# Altium footprint library Orient2.PcbLib: 47 footprints (part 1 of 3)
Each footprint in its own frame and in the unit in brackets; x right, y up, seen from the top. Pads: shape width x height; smd on the part's side, far side on the other; paste and mask are expansions set on the pad; w line width, h text height; cw(c..) or ccw(c..) is an arc to the next point about the centre after c.
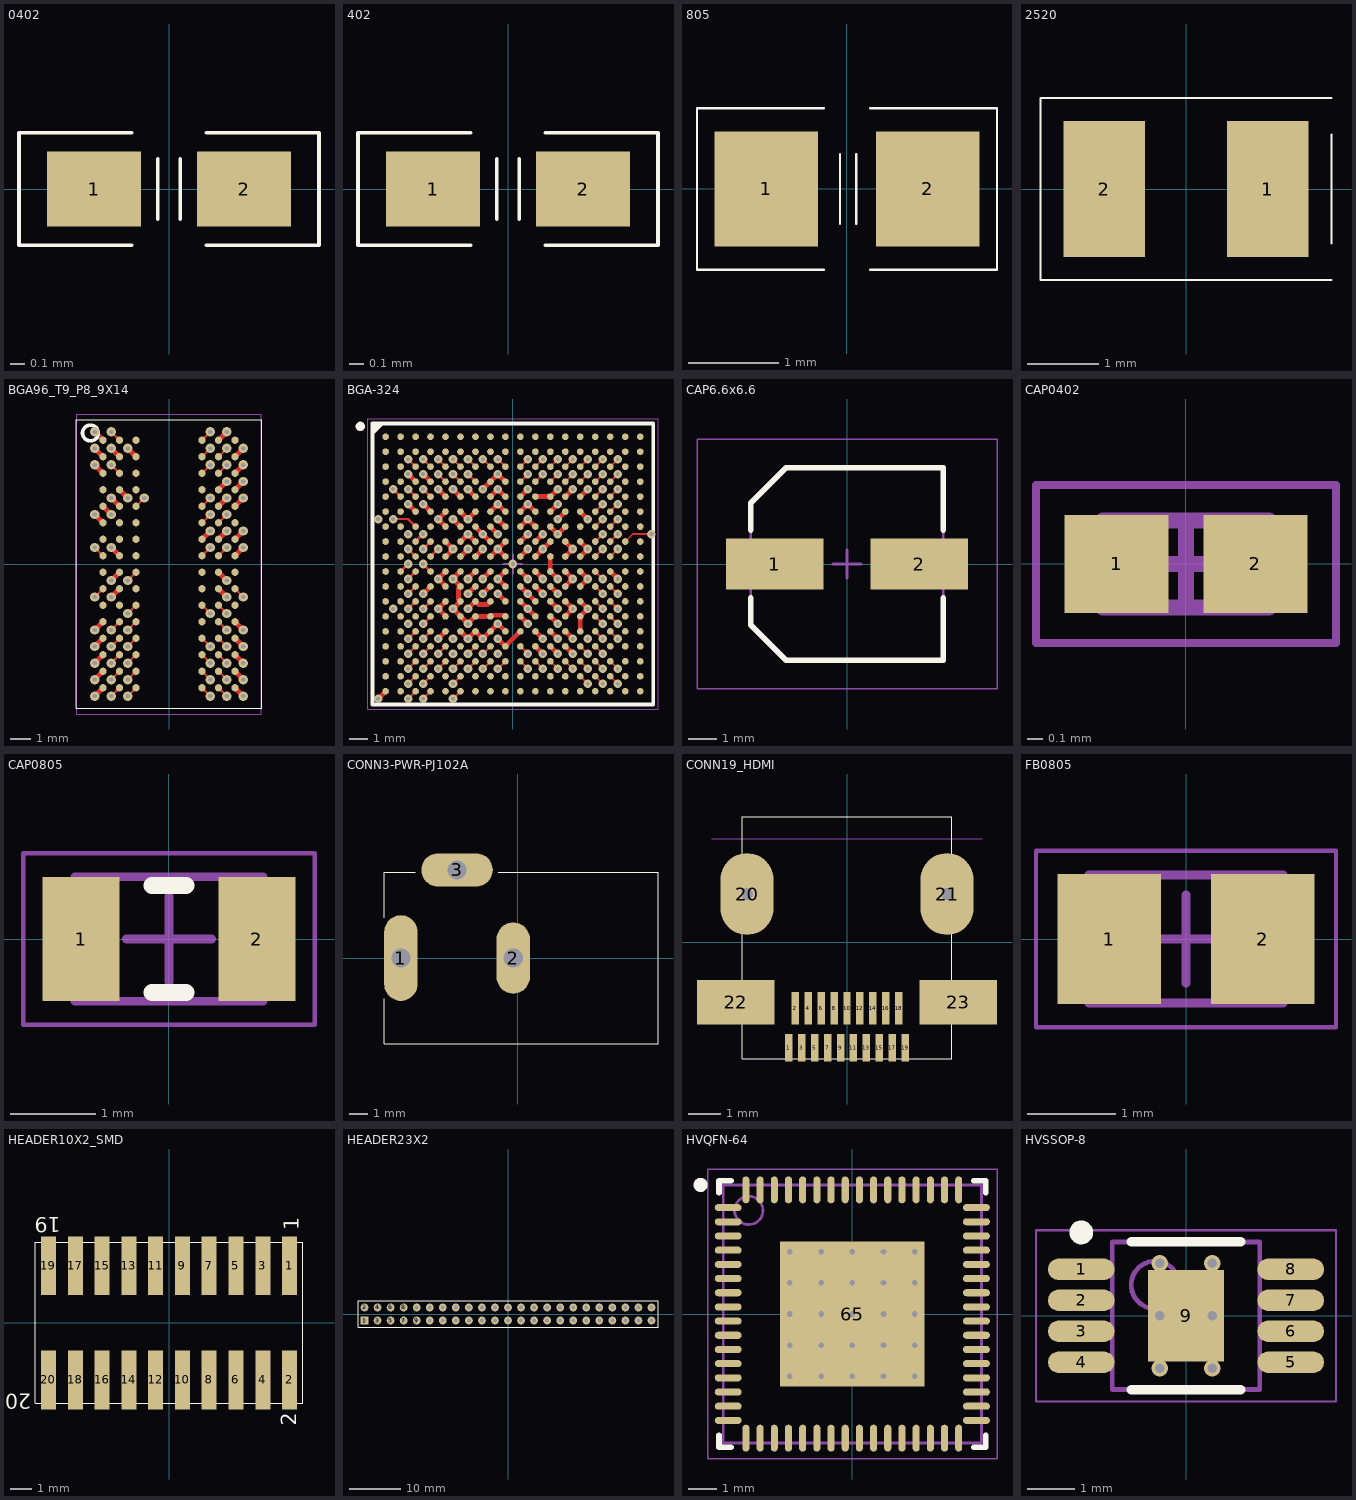
[diagram p0: the footprints below, top view; thin cyan lines are the x and y axes]

## 0402 [mil] "0402"
pads (2):
  rect 25x20 smd mask+2: 1(-20,0) 2(20,0)
Top Overlay:
  lines w1: -10,-15 -40,-15 -40,15 -10,15 ; -3,-8 -3,8 ; 3,-8 3,8 ; 10,-15 40,-15 40,15 10,15

## 402 [mil] "402"
pads (2):
  rect 25x20 smd mask+2: 1(-20,0) 2(20,0)
Top Overlay:
  lines w1: -10,-15 -40,-15 -40,15 -10,15 ; -3,-8 -3,8 ; 3,-8 3,8 ; 10,-15 40,-15 40,15 10,15

## 805 [mil] "805"
pads (2):
  rect 45x50 smd mask+2: 1(-35,0) 2(35,0)
Top Overlay:
  lines w1: -10,-35 -65,-35 -65,35 -10,35 ; -3,-15 -3,15 ; 4,-15 4,15 ; 10,-35 65,-35 65,30 65,35 10,35

## 2520 [mil] "2520"
pads (2):
  rect 45x75 smd mask+2: 1(45,0) 2(-45,0)
Top Overlay:
  lines w1: 80,-50 -80,-50 -80,50 80,50 ; 80,-30 80,30

## BGA96_T9_P8_9X14 [mil] "BGA96_T9_P8_9X14"
pads (96):
  round 14 smd mask+2: A1(-126,236.25) A2(-94.5,236.25) A3(-63,236.25) A7(63,236.25) A8(94.5,236.25) A9(126,236.25) B1(-126,204.75) B2(-94.5,204.75) B3(-63,204.75) B7(63,204.75) B8(94.5,204.75) B9(126,204.75) C1(-126,173.25) C2(-94.5,173.25) C3(-63,173.25) C7(63,173.25) C8(94.5,173.25) C9(126,173.25) D1(-126,141.75) D2(-94.5,141.75) D3(-63,141.75) D7(63,141.75) D8(94.5,141.75) D9(126,141.75) E1(-126,110.25) E2(-94.5,110.25) E3(-63,110.25) E7(63,110.25) E8(94.5,110.25) E9(126,110.25) F1(-126,78.75) F2(-94.5,78.75) F3(-63,78.75) F7(63,78.75) F8(94.5,78.75) F9(126,78.75) G1(-126,47.25) G2(-94.5,47.25) G3(-63,47.25) G7(63,47.25) G8(94.5,47.25) G9(126,47.25) H1(-126,15.75) H2(-94.5,15.75) H3(-63,15.75) H7(63,15.75) H8(94.5,15.75) H9(126,15.75) J1(-126,-15.75) J2(-94.5,-15.75) J3(-63,-15.75) J7(63,-15.75) J8(94.5,-15.75) J9(126,-15.75) K1(-126,-47.25) K2(-94.5,-47.25) K3(-63,-47.25) K7(63,-47.25) K8(94.5,-47.25) K9(126,-47.25) L1(-126,-78.75) L2(-94.5,-78.75) L3(-63,-78.75) L7(63,-78.75) L8(94.5,-78.75) L9(126,-78.75) M1(-126,-110.25) M2(-94.5,-110.25) M3(-63,-110.25) M7(63,-110.25) M8(94.5,-110.25) M9(126,-110.25) N1(-126,-141.75) N2(-94.5,-141.75) N3(-63,-141.75) N7(63,-141.75) N8(94.5,-141.75) N9(126,-141.75) P1(-126,-173.25) P2(-94.5,-173.25) P3(-63,-173.25) P7(63,-173.25) P8(94.5,-173.25) P9(126,-173.25) R1(-126,-204.75) R2(-94.5,-204.75) R3(-63,-204.75) R7(63,-204.75) R8(94.5,-204.75) R9(126,-204.75) T1(-126,-236.25) T2(-94.5,-236.25) T3(-63,-236.25) T7(63,-236.25) T8(94.5,-236.25) T9(126,-236.25)
via 110.25,-126 diameter 18 hole 8
via -141.75,31.5 diameter 18 hole 8
via -141.75,-157.5 diameter 18 hole 8
via -141.75,-220.5 diameter 18 hole 8
via 141.75,-157.5 diameter 18 hole 8
via 141.75,-220.5 diameter 18 hole 8
via -110.25,31.5 diameter 18 hole 8
via -110.25,-63 diameter 18 hole 8
via -141.75,94.5 diameter 18 hole 8
via 78.75,63 diameter 18 hole 8
via 110.25,-63 diameter 18 hole 8
via 141.75,31.5 diameter 18 hole 8
via -110.25,220.5 diameter 18 hole 8
via -78.75,126 diameter 18 hole 8
via -141.75,252 diameter 18 hole 8
via -141.75,189 diameter 18 hole 8
via 141.75,157.5 diameter 18 hole 8
via 141.75,126 diameter 18 hole 8
via 141.75,189 diameter 18 hole 8
via 110.25,252 diameter 18 hole 8
via 110.25,-94.5 diameter 18 hole 8
via 78.75,-252 diameter 18 hole 8
via -110.25,-252 diameter 18 hole 8
via -110.25,252 diameter 18 hole 8
via 78.75,252 diameter 18 hole 8
via 110.25,189 diameter 18 hole 8
via -110.25,189 diameter 18 hole 8
via 110.25,220.5 diameter 18 hole 8
via -47.25,126 diameter 18 hole 8
via 110.25,94.5 diameter 18 hole 8
via 78.75,94.5 diameter 18 hole 8
via 110.25,31.5 diameter 18 hole 8
via 78.75,31.5 diameter 18 hole 8
via 78.75,189 diameter 18 hole 8
via -78.75,-126 diameter 18 hole 8
via -110.25,-126 diameter 18 hole 8
via -141.75,-63 diameter 18 hole 8
via -141.75,-126 diameter 18 hole 8
via -141.75,-189 diameter 18 hole 8
via -141.75,-252 diameter 18 hole 8
via 141.75,-126 diameter 18 hole 8
via 141.75,-189 diameter 18 hole 8
via 141.75,-252 diameter 18 hole 8
via -110.25,94.5 diameter 18 hole 8
via -110.25,-31.5 diameter 18 hole 8
via 141.75,63 diameter 18 hole 8
via 110.25,63 diameter 18 hole 8
via 110.25,-31.5 diameter 18 hole 8
via -78.75,220.5 diameter 18 hole 8
via -141.75,220.5 diameter 18 hole 8
via -110.25,126 diameter 18 hole 8
via 141.75,220.5 diameter 18 hole 8
via 110.25,157.5 diameter 18 hole 8
via 110.25,126 diameter 18 hole 8
via -78.75,-252 diameter 18 hole 8
via 78.75,-157.5 diameter 18 hole 8
via 78.75,-220.5 diameter 18 hole 8
via 78.75,-94.5 diameter 18 hole 8
via -78.75,-220.5 diameter 18 hole 8
via 110.25,-252 diameter 18 hole 8
via -110.25,-220.5 diameter 18 hole 8
via 110.25,-220.5 diameter 18 hole 8
via -110.25,-189 diameter 18 hole 8
via 110.25,-189 diameter 18 hole 8
via -110.25,-157.5 diameter 18 hole 8
via -78.75,-189 diameter 18 hole 8
via 78.75,-189 diameter 18 hole 8
via 78.75,126 diameter 18 hole 8
via -78.75,-157.5 diameter 18 hole 8
via 110.25,-157.5 diameter 18 hole 8
via 78.75,220.5 diameter 18 hole 8
via -78.75,-94.5 diameter 18 hole 8
via -78.75,-31.5 diameter 18 hole 8
via 141.75,-63 diameter 18 hole 8
Top Layer:
  lines w4.75: -141.75,-63 -126,-47.25 ; -141.75,31.5 -126,15.75 ; -110.25,-252 -94.5,-236.25 ; -110.25,-220.5 -94.5,-204.75 ; -110.25,-189 -94.5,-173.25 ; -110.25,-157.5 -94.5,-141.75 ; -110.25,-126 -94.5,-110.25 ; -110.25,189 -94.5,173.25 ; -110.25,252 -94.5,236.25 ; -78.75,-252 -63,-236.25 ; -78.75,-220.5 -63,-204.75 ; -78.75,-189 -63,-173.25 ; -78.75,-157.5 -63,-141.75 ; -78.75,-126 -63,-110.25 ; -78.75,-94.5 -63,-78.75 ; -78.75,-31.5 -63,-15.75 ; -63,110.25 -47.25,126 ; 63,-236.25 78.75,-252 ; 63,-204.75 78.75,-220.5 ; 63,-173.25 78.75,-189 ; 63,-141.75 78.75,-157.5 ; 63,-78.75 78.75,-94.5 ; 63,15.75 78.75,31.5 ; 63,78.75 78.75,94.5 ; 63,110.25 78.75,126 ; 63,173.25 78.75,189 ; 63,204.75 78.75,220.5 ; 63,236.25 78.75,252 ; 94.5,-236.25 110.25,-252 ; 94.5,-204.75 110.25,-220.5 ; 94.5,-173.25 110.25,-189 ; 94.5,-141.75 110.25,-157.5 ; 94.5,-110.25 110.25,-126 ; 94.5,-78.75 110.25,-94.5 ; 94.5,15.75 110.25,31.5 ; 94.5,78.75 110.25,94.5 ; 94.5,173.25 110.25,189 ; 94.5,204.75 110.25,220.5 ; 126,-47.25 141.75,-63
  lines w10: -141.75,-252 -126,-236.25 ; -141.75,-220.5 -126,-204.75 ; -141.75,-189 -126,-173.25 ; -141.75,-157.5 -126,-141.75 ; -141.75,-126 -126,-110.25 ; -141.75,94.5 -126,78.75 ; -141.75,189 -126,173.25 ; -141.75,220.5 -126,204.75 ; -141.75,252 -126,236.25 ; -126,110.25 -110.25,94.5 ; -110.25,-63 -94.5,-47.25 ; -110.25,-31.5 -94.5,-15.75 ; -110.25,31.5 -94.5,15.75 ; -110.25,126 -94.5,110.25 ; -110.25,220.5 -94.5,204.75 ; -94.5,141.75 -78.75,126 ; -78.75,220.5 -63,204.75 ; 63,47.25 78.75,63 ; 94.5,-47.25 110.25,-63 ; 94.5,-15.75 110.25,-31.5 ; 94.5,47.25 110.25,63 ; 94.5,110.25 110.25,126 ; 94.5,141.75 110.25,157.5 ; 94.5,236.25 110.25,252 ; 126,-236.25 141.75,-252 ; 126,-204.75 141.75,-220.5 ; 126,-173.25 141.75,-189 ; 126,-141.75 141.75,-157.5 ; 126,-110.25 141.75,-126 ; 126,15.75 141.75,31.5 ; 126,47.25 141.75,63 ; 126,110.25 141.75,126 ; 126,141.75 141.75,157.5 ; 126,173.25 141.75,189 ; 126,204.75 141.75,220.5
Top Overlay:
  circle w7: c-150,250 r15
  lines w1: -177,-275.5 177,-275.5 177,275.5 -177,275.5 -177,-275.5
Mechanical 1:
  lines w1: -176,-286.25 176,-286.25 176,286.25 -176,286.25 -176,-286.25

## BGA-324 [mil] "BGA, 324-Leads, Body 15.00x15.00mmx1.40mm, Pitch 0.80mm"
height 55.12
pads (324):
  round 14 smd mask+2.01: A1(-267.72,267.72) A2(-236.22,267.72) A3(-204.72,267.72) A4(-173.23,267.72) A5(-141.73,267.72) A6(-110.24,267.72) A7(-78.74,267.72) A8(-47.24,267.72) A9(-15.75,267.72) A10(15.75,267.72) A11(47.24,267.72) A12(78.74,267.72) A13(110.24,267.72) A14(141.73,267.72) A15(173.23,267.72) A16(204.72,267.72) A17(236.22,267.72) A18(267.72,267.72) B1(-267.72,236.22) B2(-236.22,236.22) B3(-204.72,236.22) B4(-173.23,236.22) B5(-141.73,236.22) B6(-110.24,236.22) B7(-78.74,236.22) B8(-47.24,236.22) B9(-15.75,236.22) B10(15.75,236.22) B11(47.24,236.22) B12(78.74,236.22) B13(110.24,236.22) B14(141.73,236.22) B15(173.23,236.22) B16(204.72,236.22) B17(236.22,236.22) B18(267.72,236.22) C1(-267.72,204.72) C2(-236.22,204.72) C3(-204.72,204.72) C4(-173.23,204.72) C5(-141.73,204.72) C6(-110.24,204.72) C7(-78.74,204.72) C8(-47.24,204.72) C9(-15.75,204.72) C10(15.75,204.72) C11(47.24,204.72) C12(78.74,204.72) C13(110.24,204.72) C14(141.73,204.72) C15(173.23,204.72) C16(204.72,204.72) C17(236.22,204.72) C18(267.72,204.72) D1(-267.72,173.23) D2(-236.22,173.23) D3(-204.72,173.23) D4(-173.23,173.23) D5(-141.73,173.23) D6(-110.24,173.23) D7(-78.74,173.23) D8(-47.24,173.23) D9(-15.75,173.23) D10(15.75,173.23) D11(47.24,173.23) D12(78.74,173.23) D13(110.24,173.23) D14(141.73,173.23) D15(173.23,173.23) D16(204.72,173.23) D17(236.22,173.23) D18(267.72,173.23) E1(-267.72,141.73) E2(-236.22,141.73) E3(-204.72,141.73) E4(-173.23,141.73) E5(-141.73,141.73) E6(-110.24,141.73) E7(-78.74,141.73) E8(-47.24,141.73) E9(-15.75,141.73) E10(15.75,141.73) E11(47.24,141.73) E12(78.74,141.73) E13(110.24,141.73) E14(141.73,141.73) E15(173.23,141.73) E16(204.72,141.73) E17(236.22,141.73) E18(267.72,141.73) F1(-267.72,110.24) F2(-236.22,110.24) F3(-204.72,110.24) F4(-173.23,110.24) F5(-141.73,110.24) F6(-110.24,110.24) F7(-78.74,110.24) F8(-47.24,110.24) F9(-15.75,110.24) F10(15.75,110.24) F11(47.24,110.24) F12(78.74,110.24) F13(110.24,110.24) F14(141.73,110.24) F15(173.23,110.24) F16(204.72,110.24) F17(236.22,110.24) F18(267.72,110.24) G1(-267.72,78.74) G2(-236.22,78.74) G3(-204.72,78.74) G4(-173.23,78.74) G5(-141.73,78.74) G6(-110.24,78.74) G7(-78.74,78.74) G8(-47.24,78.74) G9(-15.75,78.74) G10(15.75,78.74) G11(47.24,78.74) G12(78.74,78.74) G13(110.24,78.74) G14(141.73,78.74) G15(173.23,78.74) G16(204.72,78.74) G17(236.22,78.74) G18(267.72,78.74) H1(-267.72,47.24) H2(-236.22,47.24) H3(-204.72,47.24) H4(-173.23,47.24) H5(-141.73,47.24) H6(-110.24,47.24) H7(-78.74,47.24) H8(-47.24,47.24) H9(-15.75,47.24) H10(15.75,47.24) H11(47.24,47.24) H12(78.74,47.24) H13(110.24,47.24) H14(141.73,47.24) H15(173.23,47.24) H16(204.72,47.24) H17(236.22,47.24) H18(267.72,47.24) J1(-267.72,15.75) J2(-236.22,15.75) J3(-204.72,15.75) J4(-173.23,15.75) J5(-141.73,15.75) J6(-110.24,15.75) J7(-78.74,15.75) J8(-47.24,15.75) J9(-15.75,15.75) J10(15.75,15.75) J11(47.24,15.75) J12(78.74,15.75) J13(110.24,15.75) J14(141.73,15.75) J15(173.23,15.75) J16(204.72,15.75) J17(236.22,15.75) J18(267.72,15.75) K1(-267.72,-15.75) K2(-236.22,-15.75) K3(-204.72,-15.75) K4(-173.23,-15.75) K5(-141.73,-15.75) K6(-110.24,-15.75) K7(-78.74,-15.75) K8(-47.24,-15.75) K9(-15.75,-15.75) K10(15.75,-15.75) K11(47.24,-15.75) K12(78.74,-15.75) K13(110.24,-15.75) K14(141.73,-15.75) K15(173.23,-15.75) K16(204.72,-15.75) K17(236.22,-15.75) K18(267.72,-15.75) L1(-267.72,-47.24) L2(-236.22,-47.24) L3(-204.72,-47.24) L4(-173.23,-47.24) L5(-141.73,-47.24) L6(-110.24,-47.24) L7(-78.74,-47.24) L8(-47.24,-47.24) L9(-15.75,-47.24) L10(15.75,-47.24) L11(47.24,-47.24) L12(78.74,-47.24) L13(110.24,-47.24) L14(141.73,-47.24) L15(173.23,-47.24) L16(204.72,-47.24) L17(236.22,-47.24) L18(267.72,-47.24) M1(-267.72,-78.74) M2(-236.22,-78.74) M3(-204.72,-78.74) M4(-173.23,-78.74) M5(-141.73,-78.74) M6(-110.24,-78.74) M7(-78.74,-78.74) M8(-47.24,-78.74) M9(-15.75,-78.74) M10(15.75,-78.74) M11(47.24,-78.74) M12(78.74,-78.74) M13(110.24,-78.74) M14(141.73,-78.74) M15(173.23,-78.74) M16(204.72,-78.74) M17(236.22,-78.74) M18(267.72,-78.74) N1(-267.72,-110.24) N2(-236.22,-110.24) N3(-204.72,-110.24) N4(-173.23,-110.24) N5(-141.73,-110.24) N6(-110.24,-110.24) N7(-78.74,-110.24) N8(-47.24,-110.24) N9(-15.75,-110.24) N10(15.75,-110.24) N11(47.24,-110.24) N12(78.74,-110.24) N13(110.24,-110.24) N14(141.73,-110.24) N15(173.23,-110.24) N16(204.72,-110.24) N17(236.22,-110.24) N18(267.72,-110.24) P1(-267.72,-141.73) P2(-236.22,-141.73) P3(-204.72,-141.73) P4(-173.23,-141.73) P5(-141.73,-141.73) P6(-110.24,-141.73) P7(-78.74,-141.73) P8(-47.24,-141.73) P9(-15.75,-141.73) P10(15.75,-141.73) P11(47.24,-141.73) P12(78.74,-141.73) P13(110.24,-141.73) P14(141.73,-141.73) P15(173.23,-141.73) P16(204.72,-141.73) P17(236.22,-141.73) P18(267.72,-141.73) R1(-267.72,-173.23) R2(-236.22,-173.23) R3(-204.72,-173.23) R4(-173.23,-173.23) R5(-141.73,-173.23) R6(-110.24,-173.23) R7(-78.74,-173.23) R8(-47.24,-173.23) R9(-15.75,-173.23) R10(15.75,-173.23) R11(47.24,-173.23) R12(78.74,-173.23) R13(110.24,-173.23) R14(141.73,-173.23) R15(173.23,-173.23) R16(204.72,-173.23) R17(236.22,-173.23) R18(267.72,-173.23) T1(-267.72,-204.72) T2(-236.22,-204.72) T3(-204.72,-204.72) T4(-173.23,-204.72) T5(-141.73,-204.72) T6(-110.24,-204.72) T7(-78.74,-204.72) T8(-47.24,-204.72) T9(-15.75,-204.72) T10(15.75,-204.72) T11(47.24,-204.72) T12(78.74,-204.72) T13(110.24,-204.72) T14(141.73,-204.72) T15(173.23,-204.72) T16(204.72,-204.72) T17(236.22,-204.72) T18(267.72,-204.72) U1(-267.72,-236.22) U2(-236.22,-236.22) U3(-204.72,-236.22) U4(-173.23,-236.22) U5(-141.73,-236.22) U6(-110.24,-236.22) U7(-78.74,-236.22) U8(-47.24,-236.22) U9(-15.75,-236.22) U10(15.75,-236.22) U11(47.24,-236.22) U12(78.74,-236.22) U13(110.24,-236.22) U14(141.73,-236.22) U15(173.23,-236.22) U16(204.72,-236.22) U17(236.22,-236.22) U18(267.72,-236.22) V1(-267.72,-267.72) V2(-236.22,-267.72) V3(-204.72,-267.72) V4(-173.23,-267.72) V5(-141.73,-267.72) V6(-110.24,-267.72) V7(-78.74,-267.72) V8(-47.24,-267.72) V9(-15.75,-267.72) V10(15.75,-267.72) V11(47.24,-267.72) V12(78.74,-267.72) V13(110.24,-267.72) V14(141.73,-267.72) V15(173.23,-267.72) V16(204.72,-267.72) V17(236.22,-267.72) V18(267.72,-267.72)
via -220.47,0 diameter 18 hole 8
via -188.98,0 diameter 18 hole 8
via 157.48,-251.97 diameter 18 hole 8
via 188.98,-251.97 diameter 18 hole 8
via 220.47,-251.97 diameter 18 hole 8
via -125.98,-251.97 diameter 18 hole 8
via -188.98,-251.97 diameter 18 hole 8
via -220.47,-251.97 diameter 18 hole 8
via -220.47,220.47 diameter 18 hole 8
via -188.98,220.47 diameter 18 hole 8
via -157.48,220.47 diameter 18 hole 8
via -125.98,220.47 diameter 18 hole 8
via -94.49,220.47 diameter 18 hole 8
via -62.99,220.47 diameter 18 hole 8
via -31.5,220.47 diameter 18 hole 8
via 31.5,220.47 diameter 18 hole 8
via 62.99,220.47 diameter 18 hole 8
via 94.49,220.47 diameter 18 hole 8
via 125.98,220.47 diameter 18 hole 8
via 157.48,220.47 diameter 18 hole 8
via 188.98,220.47 diameter 18 hole 8
via 220.47,220.47 diameter 18 hole 8
via 220.47,188.98 diameter 18 hole 8
via 188.98,188.98 diameter 18 hole 8
via 157.48,188.98 diameter 18 hole 8
via 125.98,188.98 diameter 18 hole 8
via 94.49,188.98 diameter 18 hole 8
via 62.99,188.98 diameter 18 hole 8
via 31.5,188.98 diameter 18 hole 8
via 220.47,157.48 diameter 18 hole 8
via 188.98,157.48 diameter 18 hole 8
via 157.48,157.48 diameter 18 hole 8
via 125.98,157.48 diameter 18 hole 8
via 94.49,157.48 diameter 18 hole 8
via 31.5,157.48 diameter 18 hole 8
via 220.47,125.98 diameter 18 hole 8
via 188.98,125.98 diameter 18 hole 8
via 94.49,125.98 diameter 18 hole 8
via 31.5,125.98 diameter 18 hole 8
via 220.47,94.49 diameter 18 hole 8
via 188.98,94.49 diameter 18 hole 8
via 94.49,94.49 diameter 18 hole 8
via 31.5,94.49 diameter 18 hole 8
via 157.48,94.49 diameter 18 hole 8
via 220.47,62.99 diameter 18 hole 8
via 188.98,62.99 diameter 18 hole 8
via 94.49,62.99 diameter 18 hole 8
via 62.99,62.99 diameter 18 hole 8
via 31.5,62.99 diameter 18 hole 8
via 220.47,31.5 diameter 18 hole 8
via 188.98,31.5 diameter 18 hole 8
via 157.48,31.5 diameter 18 hole 8
via 125.98,31.5 diameter 18 hole 8
via 62.99,31.5 diameter 18 hole 8
via 31.5,31.5 diameter 18 hole 8
via 220.47,-31.5 diameter 18 hole 8
via 188.98,-31.5 diameter 18 hole 8
via 157.48,-31.5 diameter 18 hole 8
via 125.98,-31.5 diameter 18 hole 8
via 94.49,-31.5 diameter 18 hole 8
via 62.99,-31.5 diameter 18 hole 8
via 31.5,-31.5 diameter 18 hole 8
via 220.47,-62.99 diameter 18 hole 8
via 188.98,-62.99 diameter 18 hole 8
via 94.49,-62.99 diameter 18 hole 8
via 62.99,-62.99 diameter 18 hole 8
via 31.5,-62.99 diameter 18 hole 8
via 220.47,-94.49 diameter 18 hole 8
via 188.98,-94.49 diameter 18 hole 8
via 157.48,-94.49 diameter 18 hole 8
via 125.98,-94.49 diameter 18 hole 8
via 94.49,-94.49 diameter 18 hole 8
via 31.5,-94.49 diameter 18 hole 8
via 220.47,-125.98 diameter 18 hole 8
via 188.98,-125.98 diameter 18 hole 8
via 94.49,-125.98 diameter 18 hole 8
via 31.5,-125.98 diameter 18 hole 8
via 220.47,-157.48 diameter 18 hole 8
via 188.98,-157.48 diameter 18 hole 8
via 157.48,-157.48 diameter 18 hole 8
via 125.98,-157.48 diameter 18 hole 8
via 94.49,-157.48 diameter 18 hole 8
via 62.99,-157.48 diameter 18 hole 8
via 188.98,-188.98 diameter 18 hole 8
via 157.48,-188.98 diameter 18 hole 8
via 125.98,-188.98 diameter 18 hole 8
via 94.49,-188.98 diameter 18 hole 8
via 62.99,-188.98 diameter 18 hole 8
via 31.5,-188.98 diameter 18 hole 8
via 220.47,-220.47 diameter 18 hole 8
via 188.98,-220.47 diameter 18 hole 8
via 157.48,-220.47 diameter 18 hole 8
via 125.98,-220.47 diameter 18 hole 8
via 94.49,-220.47 diameter 18 hole 8
via 62.99,-220.47 diameter 18 hole 8
via 31.5,-220.47 diameter 18 hole 8
via -31.5,188.98 diameter 18 hole 8
via -125.98,188.98 diameter 18 hole 8
via -157.48,188.98 diameter 18 hole 8
via -188.98,188.98 diameter 18 hole 8
via -220.47,188.98 diameter 18 hole 8
via -31.5,157.48 diameter 18 hole 8
via -62.99,157.48 diameter 18 hole 8
via -94.49,157.48 diameter 18 hole 8
via -125.98,157.48 diameter 18 hole 8
via -157.48,157.48 diameter 18 hole 8
via -188.98,157.48 diameter 18 hole 8
via -220.47,157.48 diameter 18 hole 8
via -31.5,125.98 diameter 18 hole 8
via -188.98,125.98 diameter 18 hole 8
via -220.47,125.98 diameter 18 hole 8
via -31.5,94.49 diameter 18 hole 8
via -94.49,94.49 diameter 18 hole 8
via -125.98,94.49 diameter 18 hole 8
via -157.48,94.49 diameter 18 hole 8
via -31.5,62.99 diameter 18 hole 8
via -62.99,62.99 diameter 18 hole 8
via -94.49,62.99 diameter 18 hole 8
via -188.98,62.99 diameter 18 hole 8
via -220.47,62.99 diameter 18 hole 8
via -31.5,31.5 diameter 18 hole 8
via -62.99,31.5 diameter 18 hole 8
via -94.49,31.5 diameter 18 hole 8
via -125.98,31.5 diameter 18 hole 8
via -157.48,31.5 diameter 18 hole 8
via -188.98,31.5 diameter 18 hole 8
via -220.47,31.5 diameter 18 hole 8
via -94.49,188.98 diameter 18 hole 8
via -31.5,-31.5 diameter 18 hole 8
via -62.99,-31.5 diameter 18 hole 8
via -94.49,-31.5 diameter 18 hole 8
via -125.98,-31.5 diameter 18 hole 8
via -157.48,-31.5 diameter 18 hole 8
via -220.47,-31.5 diameter 18 hole 8
via -31.5,-62.99 diameter 18 hole 8
via -62.99,-62.99 diameter 18 hole 8
via -94.49,-62.99 diameter 18 hole 8
via -188.98,-62.99 diameter 18 hole 8
via -220.47,-62.99 diameter 18 hole 8
via -94.49,-94.49 diameter 18 hole 8
via -125.98,-94.49 diameter 18 hole 8
via -157.48,-94.49 diameter 18 hole 8
via -188.98,-94.49 diameter 18 hole 8
via -220.47,-94.49 diameter 18 hole 8
via -31.5,-125.98 diameter 18 hole 8
via -94.49,-125.98 diameter 18 hole 8
via -188.98,-125.98 diameter 18 hole 8
via -220.47,-125.98 diameter 18 hole 8
via -31.5,-157.48 diameter 18 hole 8
via -62.99,-157.48 diameter 18 hole 8
via -94.49,-157.48 diameter 18 hole 8
via -125.98,-157.48 diameter 18 hole 8
via -157.48,-157.48 diameter 18 hole 8
via -188.98,-157.48 diameter 18 hole 8
via -220.47,-157.48 diameter 18 hole 8
via -31.5,-188.98 diameter 18 hole 8
via -62.99,-188.98 diameter 18 hole 8
via -94.49,-188.98 diameter 18 hole 8
via -125.98,-188.98 diameter 18 hole 8
via -157.48,-188.98 diameter 18 hole 8
via -188.98,-188.98 diameter 18 hole 8
via -220.47,-188.98 diameter 18 hole 8
via -31.5,-220.47 diameter 18 hole 8
via -62.99,-220.47 diameter 18 hole 8
via -94.49,-220.47 diameter 18 hole 8
via -125.98,-220.47 diameter 18 hole 8
via -157.48,-220.47 diameter 18 hole 8
via -188.98,-220.47 diameter 18 hole 8
via -220.47,-220.47 diameter 18 hole 8
via 0,0 diameter 18 hole 8
via -251.97,157.48 diameter 18 hole 8
via -251.97,94.49 diameter 18 hole 8
via -283.46,94.49 diameter 18 hole 8
via -251.97,-94.49 diameter 18 hole 8
via -283.46,-283.46 diameter 18 hole 8
via -220.47,-283.46 diameter 18 hole 8
via -188.98,-283.46 diameter 18 hole 8
via -125.98,-283.46 diameter 18 hole 8
via 291.34,62.99 diameter 18 hole 8
Top Layer:
  lines w3.75: 236.22,47.24 251.99,63.01 ; 251.97,62.99 289.97,62.99
  lines w4.75: -251.97,94.49 -220.47,94.49 ; -251.97,157.48 -236.22,141.73 ; -236.22,-15.75 -220.47,0 ; -220.5,94.5 -204.72,78.74 ; -220.47,-283.47 -204.72,-267.72 ; -220.47,-251.97 -204.72,-236.22 ; -220.47,-220.47 -204.72,-204.72 ; -220.47,-188.98 -204.72,-173.23 ; -220.47,-157.48 -204.72,-141.73 ; -220.47,-94.49 -204.72,-78.74 ; -220.47,-62.99 -204.72,-47.24 ; -220.47,-31.5 -204.72,-15.75 ; -220.47,31.5 -204.72,15.75 ; -220.47,157.48 -204.72,141.73 ; -220.47,220.47 -204.72,204.72 ; -204.73,47.24 -188.98,62.99 ; -188.98,-283.47 -173.23,-267.72 ; -188.98,-251.97 -173.23,-236.22 ; -188.98,-220.47 -173.23,-204.72 ; -188.98,-188.98 -173.23,-173.23 ; -188.98,-157.48 -173.23,-141.73 ; -188.98,-125.99 -173.23,-110.24 ; -188.98,-94.49 -173.23,-78.74 ; -188.98,0 -173.23,-15.75 ; -188.98,31.49 -173.23,47.24 ; -188.98,157.48 -173.23,141.73 ; -188.98,220.47 -173.23,204.72 ; -173.23,15.75 -157.48,31.5 ; -157.48,-220.47 -141.73,-204.72 ; -157.48,-188.98 -141.73,-173.23 ; -157.48,188.98 -141.73,173.23 ; -157.48,220.47 -141.73,204.72 ; -125.99,-283.47 -110.24,-267.72 ; -125.99,-251.97 -110.24,-236.22 ; -125.99,-220.47 -110.24,-204.72 ; -125.98,188.98 -110.23,173.23 ; -125.98,220.47 -110.23,204.72 ; -94.49,-220.47 -78.74,-204.72 ; -94.49,-188.98 -78.74,-173.23 ; -94.49,188.98 -78.74,173.23 ; -94.49,220.47 -78.74,204.72 ; -62.99,-220.47 -47.24,-204.72 ; -62.99,-188.98 -47.24,-173.23 ; -62.99,220.47 -47.24,204.72 ; -31.5,-220.47 -15.75,-204.72 ; -31.5,220.47 -15.75,204.72 ; 15.75,-204.72 31.5,-220.47 ; 15.75,-173.23 31.5,-188.98 ; 15.75,173.23 31.5,188.98 ; 15.75,204.72 31.5,220.47 ; 47.24,-204.72 62.99,-220.47 ; 47.24,173.23 62.99,188.98 ; 47.24,204.72 62.99,220.47 ; 78.74,-204.72 94.49,-220.47 ; 78.74,173.23 94.49,188.98 ; 78.74,204.72 94.49,220.47 ; 110.24,-204.72 125.99,-220.47 ; 110.23,173.23 125.98,188.98 ; 110.23,204.72 125.98,220.47 ; 141.73,-236.22 157.48,-251.97 ; 141.73,-204.72 157.48,-220.47 ; 141.73,-173.23 157.48,-188.98 ; 141.73,173.23 157.48,188.98 ; 141.73,204.72 157.48,220.47 ; 173.23,-236.22 188.98,-251.97 ; 173.23,-204.72 188.98,-220.47 ; 173.23,-173.23 188.98,-188.98 ; 173.23,-141.73 188.98,-157.48 ; 173.23,-110.24 188.98,-125.99 ; 173.23,-78.74 188.98,-94.49 ; 173.23,-47.24 188.98,-62.99 ; 173.23,-15.75 188.98,-31.5 ; 173.23,15.75 188.98,31.5 ; 173.23,47.24 188.98,62.99 ; 173.23,78.74 188.98,94.49 ; 173.23,110.23 188.98,125.98 ; 173.23,141.73 188.98,157.48 ; 173.23,173.23 188.98,188.98 ; 173.23,204.72 188.98,220.47 ; 204.72,-236.22 220.47,-251.97 ; 204.72,-204.72 220.47,-220.47 ; 204.72,-141.73 220.47,-157.48 ; 204.72,-110.24 220.47,-125.99 ; 204.72,-78.74 220.47,-94.49 ; 204.72,-47.24 220.47,-62.99 ; 204.72,15.75 220.47,31.5 ; 204.72,47.24 220.47,62.99 ; 204.72,78.74 220.47,94.49 ; 204.72,110.23 220.47,125.98 ; 204.72,141.73 220.47,157.48 ; 204.72,173.23 220.47,188.98 ; 204.72,204.72 220.47,220.47
  lines w10: -283.46,-283.46 -267.71,-267.71 ; -220.47,125.98 -204.72,110.23 ; -220.47,188.98 -204.69,173.21 ; -188.98,125.98 -173.23,110.23 ; -188.98,188.98 -173.2,173.21 ; -188.97,-62.99 -173.22,-47.24 ; -157.48,-94.49 -141.73,-110.24 ; -157.48,-31.5 -141.73,-47.25 ; -157.48,94.49 -141.73,78.74 ; -157.48,157.48 -141.73,141.73 ; -157.47,-157.47 -141.72,-141.72 ; -157.47,-94.48 -141.72,-78.73 ; -157.47,-31.49 -141.72,-15.74 ; -157.47,94.49 -141.72,110.24 ; -141.73,47.24 -125.98,31.49 ; -141.72,15.75 -125.97,31.5 ; -125.98,94.49 -110.23,78.74 ; -125.98,157.48 -110.23,141.73 ; -114.49,-74.49 -114.49,-51.5 -110.23,-47.24 -125.98,-31.5 -110.23,-15.74 ; -114.49,-74.47 -110.23,-78.73 -125.98,-94.48 -110.23,-110.24 -94.49,-125.99 -78.73,-110.23 -47.24,-110.24 -44.64,-107.64 -18.35,-107.64 -15.75,-110.24 ; -110.24,-141.73 -94.49,-157.48 ; -110.23,15.75 -94.48,31.5 ; -110.23,47.25 -94.48,63 -78.74,47.24 ; -110.24,110.24 -94.49,94.49 -78.73,110.24 ; -94.48,-157.47 -78.73,-141.72 ; -94.48,-94.48 -78.73,-78.73 -72.48,-85 -53.5,-85 -47.24,-78.74 ; -94.48,-62.99 -78.73,-47.24 ; -94.48,-31.49 -78.73,-15.74 ; -94.49,157.48 -78.74,141.73 ; -78.74,-141.73 -62.99,-157.48 ; -78.73,15.75 -62.98,31.5 ; -78.74,78.74 -62.99,62.99 -47.24,47.24 ; -62.98,-157.47 -47.23,-141.72 ; -62.98,-62.99 -47.23,-47.24 ; -62.98,-31.49 -47.23,-15.74 ; -62.98,157.49 -47.23,173.24 -31.49,188.98 -15.75,173.23 ; -47.24,-141.73 -31.49,-125.98 -15.75,-141.73 ; -47.24,15.75 -31.49,31.5 ; -47.24,78.74 -31.49,62.99 ; -47.24,110.24 -31.49,125.99 -15.75,110.23 ; -47.24,141.74 -31.49,157.49 -15.75,141.73 ; -31.5,-157.48 -15.75,-173.23 15.75,-141.73 ; -31.5,-62.99 -15.75,-78.74 ; -31.5,94.49 -15.75,78.74 ; -15.75,-47.25 -31.5,-31.5 -15.74,-15.74 ; -15.75,15.75 -31.5,31.5 ; -15.74,47.25 -31.49,31.5 ; 15.75,-110.24 31.5,-125.99 ; 15.75,-78.74 31.5,-94.49 47.24,-110.23 ; 15.75,-47.24 31.5,-62.99 47.24,-78.73 ; 15.75,-15.75 31.5,-31.5 ; 15.76,15.75 31.51,31.5 ; 15.76,47.25 31.51,63 ; 15.76,78.75 31.51,94.5 47.25,78.74 ; 15.76,110.24 31.51,125.99 47.25,110.23 ; 15.76,141.74 31.51,157.49 ; 47.24,-173.23 62.99,-188.98 ; 47.24,-141.73 62.99,-157.48 ; 47.24,-47.24 62.99,-62.99 ; 47.24,-15.75 62.99,-31.5 ; 47.25,15.75 63,31.5 78.75,47.25 ; 47.25,47.25 63,63 ; 47.24,141.73 78.74,141.73 94.5,157.49 ; 78.74,-173.23 94.49,-188.98 ; 78.74,-141.73 94.49,-157.48 ; 78.74,-110.24 94.49,-125.99 ; 78.74,-78.74 94.49,-94.49 ; 78.74,-47.24 94.49,-62.99 ; 78.74,15.75 78.74,-15.75 94.49,-31.5 ; 78.74,78.74 94.49,62.99 110.25,78.75 ; 78.75,110.24 94.5,125.99 ; 94.5,94.49 110.25,110.24 ; 110.24,-173.23 125.99,-188.98 ; 110.24,-141.73 125.99,-157.48 ; 110.24,-110.23 125.99,-94.48 110.24,-78.74 ; 110.24,-47.24 125.99,-31.49 110.24,-15.75 ; 110.24,15.75 125.99,31.5 110.24,47.24 ; 110.24,141.74 125.99,157.49 ; 141.73,-141.73 141.73,-110.24 157.49,-94.48 141.73,-78.74 ; 141.74,-47.24 157.49,-31.49 141.73,-15.75 ; 141.74,15.75 157.49,31.5 141.73,47.24 ; 141.73,110.24 157.48,94.49 ; 141.74,141.74 157.49,157.49 ; 204.72,-15.75 220.47,-31.5
Top Overlay:
  circle w9.84: c-320.87,289.37 r4.92
  region: -274.96,295.28 -295.28,274.96 -295.28,295.28
  lines w7.87: -295.28,274.96 -274.96,295.28 ; -295.28,-295.28 -295.28,295.28 295.28,295.28 295.28,-295.28 -295.28,-295.28
Mechanical 13:
  lines w3.94: -295.28,-295.28 -295.28,295.28 295.28,295.28 295.28,-295.28 -295.28,-295.28
Mechanical 15:
  lines w1.97: -305.12,-305.12 -305.12,305.12 305.12,305.12 305.12,-305.12 -305.12,-305.12
  lines w3.94: -19.68,0 19.69,0 ; 0,-19.69 0,19.68
3D body "BGA324C80P18X18_1500X1500X140.step": height 55.12, standoff 0, extent -295.27,-295.27 295.28,295.28

## CAP6.6x6.6 [mm] "Aluminum Electrolytic Capacitor, Body 6.60x6.60x5.50mm, IPC Low Density"
height 5.5
pads (2):
  rect 3.45x1.8 smd: 1(-2.55,0) 2(2.55,0)
Top Overlay:
  lines w0.2: -3.4,-1.2 -3.4,-2.15 -2.15,-3.4 3.4,-3.4 3.4,-1.2 ; -3.4,1.2 -3.4,2.15 -2.15,3.4 3.4,3.4 3.4,1.2
Mechanical 13:
  lines w0.1: -3.4,-2.15 -2.15,-3.4 3.4,-3.4 3.4,3.4 -2.15,3.4 -3.4,2.15 -3.4,-2.15
Mechanical 15:
  lines w0.05: -5.3,-4.4 -5.3,4.4 5.3,4.4 5.3,-4.4 -5.3,-4.4
  lines w0.1: -0.5,0 0.5,0 ; 0,-0.5 0,0.5
3D body "CAPAE7066X55M.step": height 5.5, standoff -0.8, extent -3.5,-3.4 3.5,3.4

## CAP0402 [mm] "Chip Capacitor, 2-Leads, Body 1.00x0.50mm, IPC Medium Density"
height 0.55
pads (2):
  rect 0.66x0.62 smd: 1(-0.44,0) 2(0.44,0)
Mechanical 13:
  lines w0.1: -0.525,-0.275 0.525,-0.275 0.525,0.275 -0.525,0.275 -0.525,-0.275
Mechanical 15:
  lines w0.05: -0.95,-0.5 0.95,-0.5 0.95,0.5 -0.95,0.5 -0.95,-0.5
  lines w0.1: -0.275,0 0.275,0 ; 0,-0.275 0,0.275
3D body "CAPC1005X06N.step": height 0.55, standoff 0, extent -0.525,-0.275 0.525,0.275

## CAP0805 [mm] "Chip Capacitor, 2-Leads, Body 2.00x1.25mm, IPC Medium Density"
height 1.45
pads (2):
  rect 0.9x1.45 smd: 1(-1.025,0) 2(1.025,0)
Top Overlay:
  lines w0.2: -0.2,-0.625 0.2,-0.625 ; -0.2,0.625 0.2,0.625
Mechanical 13:
  lines w0.1: -1.1,-0.725 1.1,-0.725 1.1,0.725 -1.1,0.725 -1.1,-0.725
Mechanical 15:
  lines w0.05: -1.7,-1 1.7,-1 1.7,1 -1.7,1 -1.7,-1
  lines w0.1: -0.5,0 0.5,0 ; 0,-0.5 0,0.5
3D body "CAPC2012X14N.step": height 1.45, standoff 0, extent -1.1,-0.725 1.1,0.725

## CONN3-PWR-PJ102A [mil] "CONN3-PWR-PJ102A"
pads (3):
  oval 70x180 hole 40 mask+2: 1(-245,0)
  oval 70x150 hole 40 mask+2: 2(-9,0)
  oval 150x70 hole 40 mask+2: 3(-127,185)
Top Overlay:
  lines w1: -280,-85 -280,-180 295,-180 295,180 -40,180 ; -280,85 -280,180 -215,180

## CONN19_HDMI [mm] "CONN19_HDMI"
pads (23):
  rect 0.23x0.85 smd mask+0.051: 1(-1.8,-3.265) 3(-1.4,-3.265) 5(-1,-3.265) 7(-0.6,-3.265) 9(-0.2,-3.265) 11(0.2,-3.265) 13(0.6,-3.265) 15(1,-3.265) 17(1.4,-3.265) 19(1.8,-3.265)
  rect 0.23x1 smd mask+0.051: 2(-1.6,-2.04) 4(-1.2,-2.04) 6(-0.8,-2.04) 8(-0.4,-2.04) 10(0,-2.04) 12(0.4,-2.04) 14(0.8,-2.04) 16(1.2,-2.04) 18(1.6,-2.04)
  oval 1.651x2.54 hole 0.381 mask+0.051: 20(-3.1,1.5) 21(3.1,1.5)
  rect 2.4x1.38 smd mask+0.051: 22(-3.45,-1.86) 23(3.45,-1.86)
Top Overlay:
  lines w0.025: -3.25,-3.6 3.25,-3.6 3.25,3.9 -3.25,3.9 -3.25,-3.6
Mechanical 3:
  lines w0.025: -4.2,3.21 4.2,3.21

## FB0805 [mm] "Chip Inductor, 2-Leads, Body 2.00x1.25mm, IPC Medium Density"
height 1.1
pads (2):
  rect 1.17x1.47 smd: 1(-0.87,0) 2(0.87,0)
Mechanical 13:
  lines w0.1: -1.1,-0.725 1.1,-0.725 1.1,0.725 -1.1,0.725 -1.1,-0.725
Mechanical 15:
  lines w0.05: -1.7,-1 1.7,-1 1.7,1 -1.7,1 -1.7,-1
  lines w0.1: -0.5,0 0.5,0 ; 0,-0.5 0,0.5
3D body "INDC2012X11N.step": height 1.1, standoff 0, extent -1.1,-0.725 1.1,0.725

## HEADER10X2_SMD [mil] "HEADER10X2_SMD"
pads (20):
  rect 28x110 smd mask+2: 1(225,106.5) 2(225,-106.5) 3(175,106.5) 4(175,-106.5) 5(125,106.5) 6(125,-106.5) 7(75,106.5) 8(75,-106.5) 9(25,106.5) 10(25,-106.5) 11(-25,106.5) 12(-25,-106.5) 13(-75,106.5) 14(-75,-106.5) 15(-125,106.5) 16(-125,-106.5) 17(-175,106.5) 18(-175,-106.5) 19(-225,106.5) 20(-225,-106.5)
Top Overlay:
  lines w1: -250,-150 250,-150 250,150 -250,150 -250,-150
  text "1" at 242.5,172.5 h28
  text "2" at 237.5,-192.5 h28
  text "19" at -202.5,197.5 h28
  text "20" at -257.5,-132.5 h28

## HEADER23X2 [mil] "HEADER23X2"
pads (46):
  rect 60x60 hole 30 mask+2: 1(-1100,-50)
  round 60 hole 30 mask+2: 2(-1100,50) 3(-1000,-50) 4(-1000,50) 5(-900,-50) 6(-900,50) 7(-800,-50) 8(-800,50) 9(-700,-50) 10(-700,50) 11(-600,-50) 12(-600,50) 13(-500,-50) 14(-500,50) 15(-400,-50) 16(-400,50) 17(-300,-50) 18(-300,50) 19(-200,-50) 20(-200,50) 21(-100,-50) 22(-100,50) 23(0,-50) 24(0,50) 25(100,-50) 26(100,50) 27(200,-50) 28(200,50) 29(300,-50) 30(300,50) 31(400,-50) 32(400,50) 33(500,-50) 34(500,50) 35(600,-50) 36(600,50) 37(700,-50) 38(700,50) 39(800,-50) 40(800,50) 41(900,-50) 42(900,50) 43(1000,-50) 44(1000,50) 45(1100,-50) 46(1100,50)
Top Overlay:
  lines w1: -1150,-100 -1050,-100 1150,-100 1150,100 -1050,100 -1150,100 -1150,-100
Bottom Overlay:
  text ".Designator" at 1237.5,-25 h40

## HVQFN-64 [mm] "QFN, 64-Leads, Body 9.00x9.00mm, Pitch 0.50mm, Thermal Pad 5.10x5.10mm, IPC Medium Density"
height 1
pads (65):
  oval 0.95x0.25 smd mask+0.05: 1(-4.375,3.75) 2(-4.375,3.25) 3(-4.375,2.75) 4(-4.375,2.25) 5(-4.375,1.75) 6(-4.375,1.25) 7(-4.375,0.75) 8(-4.375,0.25) 9(-4.375,-0.25) 10(-4.375,-0.75) 11(-4.375,-1.25) 12(-4.375,-1.75) 13(-4.375,-2.25) 14(-4.375,-2.75) 15(-4.375,-3.25) 16(-4.375,-3.75) 33(4.375,-3.75) 34(4.375,-3.25) 35(4.375,-2.75) 36(4.375,-2.25) 37(4.375,-1.75) 38(4.375,-1.25) 39(4.375,-0.75) 40(4.375,-0.25) 41(4.375,0.25) 42(4.375,0.75) 43(4.375,1.25) 44(4.375,1.75) 45(4.375,2.25) 46(4.375,2.75) 47(4.375,3.25) 48(4.375,3.75)
  oval 0.25x0.95 smd mask+0.05: 17(-3.75,-4.375) 18(-3.25,-4.375) 19(-2.75,-4.375) 20(-2.25,-4.375) 21(-1.75,-4.375) 22(-1.25,-4.375) 23(-0.75,-4.375) 24(-0.25,-4.375) 25(0.25,-4.375) 26(0.75,-4.375) 27(1.25,-4.375) 28(1.75,-4.375) 29(2.25,-4.375) 30(2.75,-4.375) 31(3.25,-4.375) 32(3.75,-4.375) 49(3.75,4.375) 50(3.25,4.375) 51(2.75,4.375) 52(2.25,4.375) 53(1.75,4.375) 54(1.25,4.375) 55(0.75,4.375) 56(0.25,4.375) 57(-0.25,4.375) 58(-0.75,4.375) 59(-1.25,4.375) 60(-1.75,4.375) 61(-2.25,4.375) 62(-2.75,4.375) 63(-3.25,4.375) 64(-3.75,4.375)
  rect 5.1x5.1 smd: 65(0,0)
via -2.2,2.2 diameter 0.5 hole 0.2
via -1.1,2.2 diameter 0.5 hole 0.2
via 0,2.2 diameter 0.5 hole 0.2
via 1.1,2.2 diameter 0.5 hole 0.2
via 2.2,2.2 diameter 0.5 hole 0.2
via -2.2,1.1 diameter 0.5 hole 0.2
via -1.1,1.1 diameter 0.5 hole 0.2
via 0,1.1 diameter 0.5 hole 0.2
via 1.1,1.1 diameter 0.5 hole 0.2
via 2.2,1.1 diameter 0.5 hole 0.2
via -2.2,0 diameter 0.5 hole 0.2
via -1.1,0 diameter 0.5 hole 0.2
via 0,0 diameter 0.5 hole 0.2
via 1.1,0 diameter 0.5 hole 0.2
via 2.2,0 diameter 0.5 hole 0.2
via -2.2,-1.1 diameter 0.5 hole 0.2
via -1.1,-1.1 diameter 0.5 hole 0.2
via 0,-1.1 diameter 0.5 hole 0.2
via 1.1,-1.1 diameter 0.5 hole 0.2
via 2.2,-1.1 diameter 0.5 hole 0.2
via -2.2,-2.2 diameter 0.5 hole 0.2
via -1.1,-2.2 diameter 0.5 hole 0.2
via 0,-2.2 diameter 0.5 hole 0.2
via 1.1,-2.2 diameter 0.5 hole 0.2
via 2.2,-2.2 diameter 0.5 hole 0.2
Top Overlay:
  circle w0.25: c-5.35,4.55 r0.125
  lines w0.2: -4.7,-4.275 -4.7,-4.7 -4.275,-4.7 ; -4.7,4.275 -4.7,4.7 -4.275,4.7 ; 4.275,-4.7 4.7,-4.7 4.7,-4.275 ; 4.275,4.7 4.7,4.7 4.7,4.275
Mechanical 13:
  circle w0.1: c-3.65,3.65 r0.5
  lines w0.1: -4.55,-4.55 -4.55,4.55 4.55,4.55 4.55,-4.55 -4.55,-4.55
Mechanical 15:
  lines w0.05: -5.1,-5.1 -5.1,5.1 5.1,5.1 5.1,-5.1 -5.1,-5.1
  lines w0.1: -0.5,0 0.5,0 ; 0,-0.5 0,0.5
3D body "QFN50P900X900X100_HS-65N.step": height 1, standoff 0, extent -4.551,-4.551 4.551,4.551

## HVSSOP-8 [mm] "TSOP, 8-Leads, Body 3.00x3.00mm, Pitch 0.65mm, Thermal Pad 1.92x1.60mm, IPC Medium Density"
height 1.1
pads (9):
  oval 1.4x0.45 smd mask+0.05: 1(-2.2,0.975) 2(-2.2,0.325) 3(-2.2,-0.325) 4(-2.2,-0.975) 5(2.2,-0.975) 6(2.2,-0.325) 7(2.2,0.325) 8(2.2,0.975)
  rect 1.6x1.92 smd: 9(0,0)
via -0.55,0 diameter 0.35 hole 0.2
via 0.55,0 diameter 0.35 hole 0.2
via 0.55,-1.1 diameter 0.35 hole 0.2
via -0.55,-1.1 diameter 0.35 hole 0.2
via -0.55,1.1 diameter 0.35 hole 0.2
via 0.55,1.1 diameter 0.35 hole 0.2
Top Overlay:
  circle w0.25: c-2.2,1.75 r0.125
  lines w0.2: -1.15,-1.55 1.15,-1.55 ; -1.15,1.55 1.15,1.55
Mechanical 13:
  circle w0.1: c-0.65,0.65 r0.5
  lines w0.1: -1.55,-1.55 -1.55,1.55 1.55,1.55 1.55,-1.55 -1.55,-1.55
Mechanical 15:
  lines w0.05: -3.15,-1.8 -3.15,1.8 3.15,1.8 3.15,-1.8 -3.15,-1.8
  lines w0.1: -0.5,0 0.5,0 ; 0,-0.5 0,0.5
3D body "TSOP65P490X110_HS-9N.step": height 1.1, standoff 0, extent -2.45,-1.55 2.45,1.55